# Altium schematic symbol library Keystone_2468.SchLib: 1 symbol
Pins are listed as number, name and electrical type; pins without a type are passive.

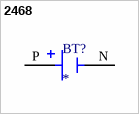
[diagram p0: symbol 2468]

## 2468
designator BT?
Battery Holder, THM, 2 Cell, Cell Size AAA, Plastic | Keystone Electronics 2468; MP: 2468; SnapEDA_Link: https://www.snapeda.com/parts/2468/Keystone/view-part/?ref=snap; Package: None; Value: *; MF: Keystone Electronics; Check_prices: https://www.snapeda.com/parts/2468/Keystone/view-part/?ref=eda
footprint BAT_2468
pins: N NEG, P POS